# EAGLE library part LS_VERT (library apricot)
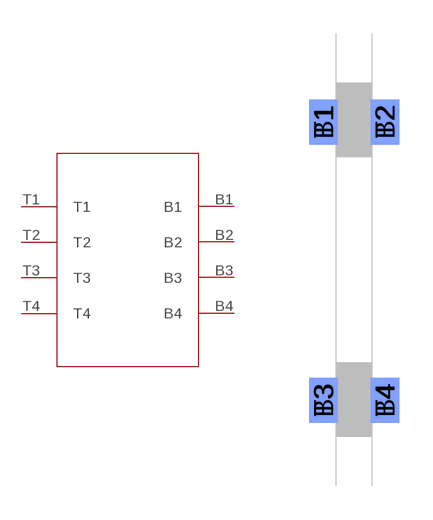
[diagram p2: symbol with the pads of LS_VERT; footprint LS_VERT]

Designator prefix -

## LS_VERT  [LS_VERT]
B1  B1
B2  B2
B3  B3
B4  B4
T1  T1
T2  T2
T3  T3
T4  T4

## Footprint LS_VERT (pad centres in mm)
smd 1.25 x 2 bottom: B1 -0.557,6.096; B2 2.159,6.096; B3 -0.557,-6.223; B4 2.159,-6.223
smd 1.25 x 2: T1 -0.557,6.096; T2 2.159,6.096; T3 -0.557,-6.223; T4 2.159,-6.223